# EAGLE library part FPC50E-40PBX (library m_connector)
40-pin FFC cable header with 0.5mm pitch
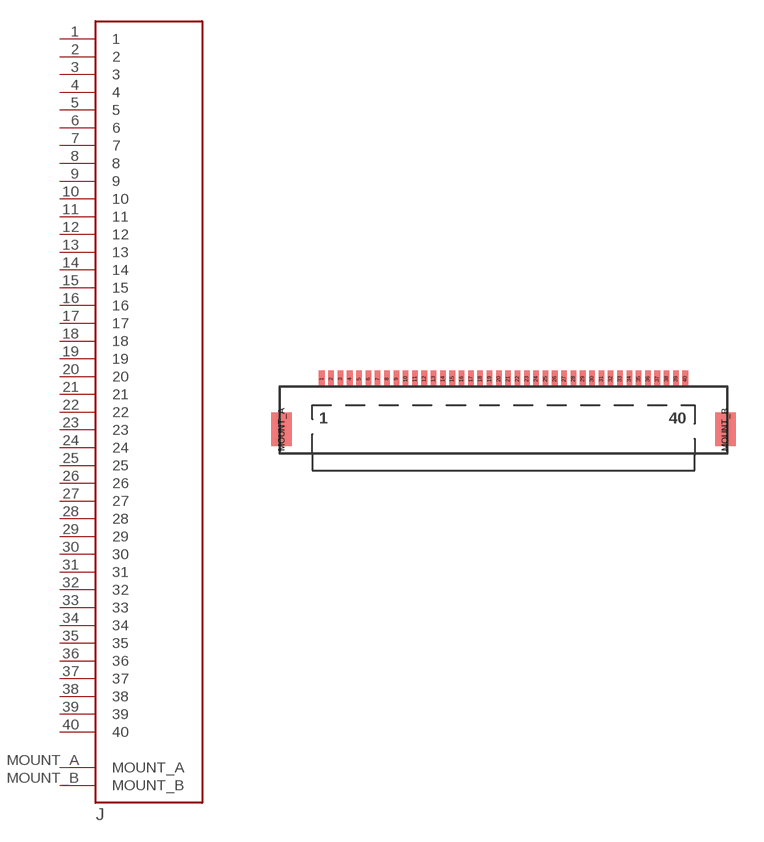
[diagram p18: symbol with the pads of FPC50E-40PBX; footprint FPC50E-40PBX]

Designator prefix J

## FPC50E-40PBX (PARTNUM: FPC50E-40PBX)  [FPC50E-40PBX]
1  1
2  2
3  3
4  4
5  5
6  6
7  7
8  8
9  9
10  10
11  11
12  12
13  13
14  14
15  15
16  16
17  17
18  18
19  19
20  20
21  21
22  22
23  23
24  24
25  25
26  26
27  27
28  28
29  29
30  30
31  31
32  32
33  33
34  34
35  35
36  36
37  37
38  38
39  39
40  40
MOUNT_A  MOUNT_A
MOUNT_B  MOUNT_B

## Footprint FPC50E-40PBX (pad centres in mm)
smd 0.3 x 0.9: 1 -9.75,2.15; 2 -9.25,2.15; 3 -8.75,2.15; 4 -8.25,2.15; 5 -7.75,2.15; 6 -7.25,2.15; 7 -6.75,2.15; 8 -6.25,2.15; 9 -5.75,2.15; 10 -5.25,2.15; 11 -4.75,2.15; 12 -4.25,2.15; 13 -3.75,2.15; 14 -3.25,2.15; 15 -2.75,2.15; 16 -2.25,2.15; 17 -1.75,2.15; 18 -1.25,2.15; 19 -0.75,2.15; 20 -0.25,2.15; 21 0.25,2.15; 22 0.75,2.15; 23 1.25,2.15; 24 1.75,2.15; 25 2.25,2.15; 26 2.75,2.15; 27 3.25,2.15; 28 3.75,2.15; 29 4.25,2.15; 30 4.75,2.15; 31 5.25,2.15; 32 5.75,2.15; 33 6.25,2.15; 34 6.75,2.15; 35 7.25,2.15; 36 7.75,2.15; 37 8.25,2.15; 38 8.75,2.15; 39 9.25,2.15; 40 9.75,2.15
smd 1.1 x 1.8: MOUNT_A -11.9,-0.55; MOUNT_B 11.9,-0.55